# EAGLE library part ISD25XX (library isd)
VOICE RECORD/PLAYBACK IC 5V, MCU Interface, 60-120 Second Duration
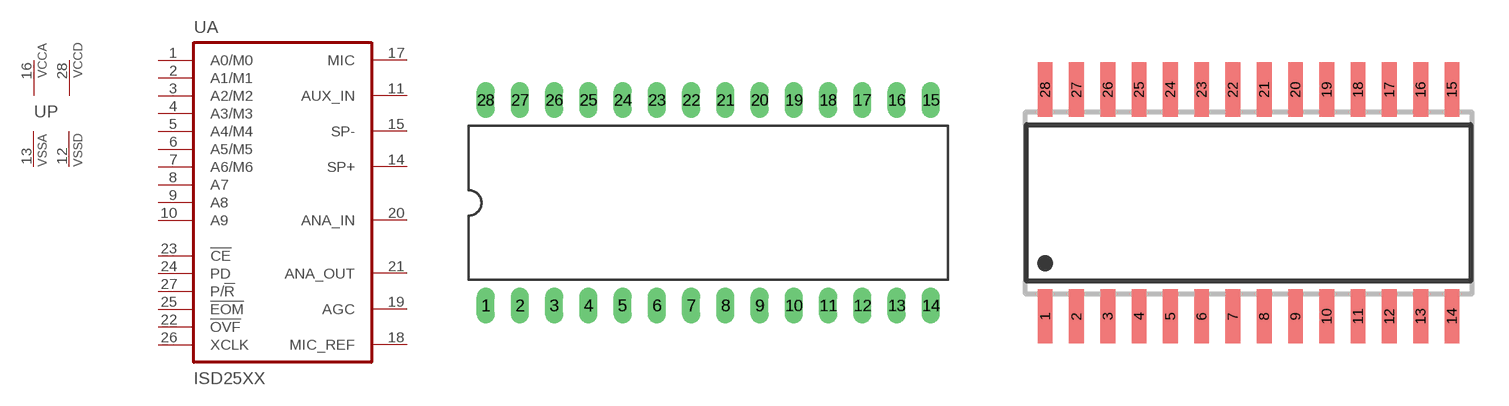
[diagram p0: symbol with the pads of DIL28-6; footprints DIL28-6, SO28W]

Designator prefix U; gates A=ISD25XX P=VCC2VSS2

## ISD25XXP  [DIL28-6]
1  A:A0/M0  in
2  A:A1/M1  in
3  A:A2/M2  in
4  A:A3/M3  in
5  A:A4/M4  in
6  A:A5/M5  in
7  A:A6/M6  in
8  A:A7  in
9  A:A8  in
10  A:A9  in
11  A:AUX_IN  in
12  P:VSSD  pwr
13  P:VSSA  pwr
14  A:SP+  out
15  A:SP-  out
16  P:VCCA  pwr
17  A:MIC  in
18  A:MIC_REF  in
19  A:AGC  pas
20  A:ANA_IN  in
21  A:ANA_OUT  out
22  A:!OVF!  out
23  A:!CE!  in
24  A:PD  in
25  A:!EOM!  out
26  A:XCLK  in
27  A:P/!R!  in
28  P:VCCD  pwr

## ISD25XXS  [SO28W]
Pads as for DIL28-6

## Footprint DIL28-6 (pad centres in mm)
Dual In Line Package 0.6 inch
drill 0.813 long: 1 -16.51,-7.62; 2 -13.97,-7.62; 3 -11.43,-7.62; 4 -8.89,-7.62; 5 -6.35,-7.62; 6 -3.81,-7.62; 7 -1.27,-7.62; 8 1.27,-7.62; 9 3.81,-7.62; 10 6.35,-7.62; 11 8.89,-7.62; 12 11.43,-7.62; 13 13.97,-7.62; 14 16.51,-7.62; 15 16.51,7.62; 16 13.97,7.62; 17 11.43,7.62; 18 8.89,7.62; 19 6.35,7.62; 20 3.81,7.62; 21 1.27,7.62; 22 -1.27,7.62; 23 -3.81,7.62; 24 -6.35,7.62; 25 -8.89,7.62; 26 -11.43,7.62; 27 -13.97,7.62; 28 -16.51,7.62

## Footprint SO28W (pad centres in mm)
SMALL OUTLINE INTEGRATED CIRCUIT wide body 7.5 mm/JEDEC MO-119AB
smd 0.6 x 2.2: 1 -8.255,-4.6; 2 -6.985,-4.6; 3 -5.715,-4.6; 4 -4.445,-4.6; 5 -3.175,-4.6; 6 -1.905,-4.6; 7 -0.635,-4.6; 8 0.635,-4.6; 9 1.905,-4.6; 10 3.175,-4.6; 11 4.445,-4.6; 12 5.715,-4.6; 13 6.985,-4.6; 14 8.255,-4.6; 15 8.255,4.6; 16 6.985,4.6; 17 5.715,4.6; 18 4.445,4.6; 19 3.175,4.6; 20 1.905,4.6; 21 0.635,4.6; 22 -0.635,4.6; 23 -1.905,4.6; 24 -3.175,4.6; 25 -4.445,4.6; 26 -5.715,4.6; 27 -6.985,4.6; 28 -8.255,4.6